# EAGLE library part 739-160/100-000 (library con-wago_739)
Serie 739, Klemmenleiste für Leiterplatten 1 Einpressstift/Pol / Series 739, PCB terminal strip 1 press-in pin/pole Polzahl / Pole No.: 10 Rastermaß / Pitch: 5.08 mm Bemessungsspannung / Rated Voltage: 320 V Nennstrom / Nominal Current: 8 A Leiterquerschnitt / Conductor Size: 0.08 - 2.5 mm² Anschlusstechnik / Connection Technology: CAGE CLAMP® Leitereinführung (zur Platine) / Conductor entry angle (to PCB): 90 ° Farbe / Color: orange / orange Stand: 01.01.2012. Die jeweils aktuellen Daten zu diesem Artikel finden Sie in unserem Produktkatalog, den Sie unter www.wago.com einsehen können. As of: 01/01/2012. Please find the newest data for this article in our product catalogue, which can be viewed under www.wago.com.
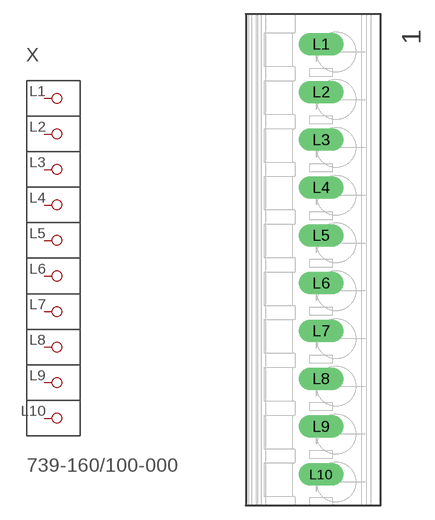
[diagram p40: symbol with the pads of P-739-160/100-000; footprint P-739-160/100-000]

Designator prefix X

## 739-160/100-000  [P-739-160/100-000]
L1  P1
L2  P2
L3  P3
L4  P4
L5  P5
L6  P6
L7  P7
L8  P8
L9  P9
L10  P10

## Footprint P-739-160/100-000 (pad centres in mm)
drill 1.6 long: L1 0.85,22.91; L2 0.85,17.83; L3 0.85,12.75; L4 0.85,7.67; L5 0.85,2.59; L6 0.85,-2.49; L7 0.85,-7.57; L8 0.85,-12.65; L9 0.85,-17.73; L10 0.84,-22.81